# Altium footprint library PcbLib1.PcbLib: 3 footprints
Each footprint in its own frame and in the unit in brackets; x right, y up, seen from the top. Pads: shape width x height; smd on the part's side, far side on the other; paste and mask are expansions set on the pad; w line width, h text height; cw(c..) or ccw(c..) is an arc to the next point about the centre after c.
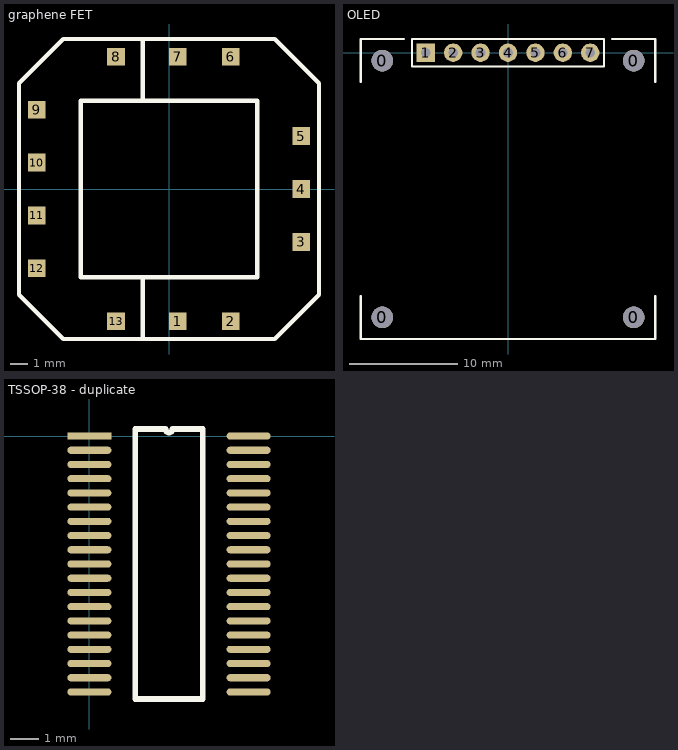
[diagram p0: the footprints below, top view; thin cyan lines are the x and y axes]

## graphene FET [mm]
pads (13):
  rect 1x1 all layers, no hole: 1(0.5,-7.5) 2(3.5,-7.5) 3(7.5,-3) 4(7.5,0) 5(7.5,3) 6(3.5,7.5) 7(0.5,7.5) 8(-3,7.5) 9(-7.5,4.5) 10(-7.5,1.5) 11(-7.5,-1.5) 12(-7.5,-4.5) 13(-3,-7.5)
Top Overlay:
  lines w0.254: -1.5,-8.5 -1.5,-5 ; -1.5,5 -1.5,8.5 ; -8.5,-6 -8.5,6 -6,8.5 6,8.5 8.5,6 8.5,-6 6,-8.5 -6,-8.5 -8.5,-6 ; -5,-5 5,-5 5,5 -5,5 -5,-5

## OLED [mm]
pads (11):
  round 2 hole 2: 0(-11.65,-24.53) 0(-11.65,-0.73) 0(11.65,-24.53) 0(11.65,-0.73)
  rect 1.7x1.7 hole 0.9: 1(-7.62,0)
  round 1.7 hole 0.9: 2(-5.08,0) 3(-2.54,0) 4(0,0) 5(2.54,0) 6(5.08,0) 7(7.62,0)
Top Overlay:
  lines w0.2: -13.65,-22.53 -13.65,-26.53 13.5,-26.53 ; -13.65,-2.73 -13.65,1.27 -9.65,1.27 ; 9.65,1.27 13.65,1.27 13.65,-2.73 ; 13.65,-26.53 13.65,-22.53 ; -8.89,-1.27 8.89,-1.27 8.89,1.27 -8.89,1.27 -8.89,-1.27
3D body: height 8.5, standoff -3, extent -3.81,-1.27 -1.27,1.27
3D body: height 8.5, standoff -3, extent -8.89,-1.27 -6.35,1.27
3D body: height 8.5, standoff -3, extent -6.35,-1.27 -3.81,1.27
3D body: height 8.5, standoff -3, extent 3.81,-1.27 6.35,1.27
3D body: height 8.5, standoff -3, extent -1.27,-1.27 1.27,1.27
3D body: height 8.5, standoff -3, extent 1.27,-1.27 3.81,1.27
3D body: height 8.5, standoff -3, extent 6.35,-1.27 8.89,1.27

## TSSOP-38 - duplicate [mm]
pads (38):
  rect 1.55x0.25 smd: 1(0,0)
  oval 1.55x0.25 smd: 2(0,-0.5) 3(0,-1) 4(0,-1.5) 5(0,-2) 6(0,-2.5) 7(0,-3) 8(0,-3.5) 9(0,-4) 10(0,-4.5) 11(0,-5) 12(0,-5.5) 13(0,-6) 14(0,-6.5) 15(0,-7) 16(0,-7.5) 17(0,-8) 18(0,-8.5) 19(0,-9) 20(5.6,-9) 21(5.6,-8.5) 22(5.6,-8) 23(5.6,-7.5) 24(5.6,-7) 25(5.6,-6.5) 26(5.6,-6) 27(5.6,-5.5) 28(5.6,-5) 29(5.6,-4.5) 30(5.6,-4) 31(5.6,-3.5) 32(5.6,-3) 33(5.6,-2.5) 34(5.6,-2) 35(5.6,-1.5) 36(5.6,-1) 37(5.6,-0.5) 38(5.6,0)
Top Overlay:
  lines w0.2: 1.61,-9.25 3.99,-9.25 3.99,0.25 2.925,0.25 cw(c2.8,0.25) 2.675,0.25 1.61,0.25 1.61,-9.25